# Altium schematic symbol library CL31B106KAHZW6E.SchLib: 1 symbol
Pins are listed as number, name and electrical type; pins without a type are passive.

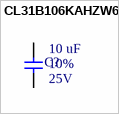
[diagram p0: symbol CL31B106KAHZW6E]

## CL31B106KAHZW6E
designator C?  Capacitence: 10 uF  Tolerance: 10%  Voltage - Rated: 25V  (hidden comment: CL31B106KAHZW6E)
CAP CER 10UF 25V X7R 1206; Temperature Coefficient: X7R; Package: 1206; Footprint: C1206; ComponentLink1Description: Datasheet; ComponentLink1URL: http://www.samsungsem.com/kr/support/product-search/mlcc/CL31B106KAHZW6E.jsp; PN: CL31B106KAHZW6E; Supplier 1: Digi-Key; Supplier Part Number 1: 1276-7031-1-ND
footprint C1206 (A generic C1206 footprint)
pins: 1, 2